# Altium schematic symbol library stf202_22t1g.SchLib: 1 symbol
Pins are listed as number, name and electrical type; pins without a type are passive.

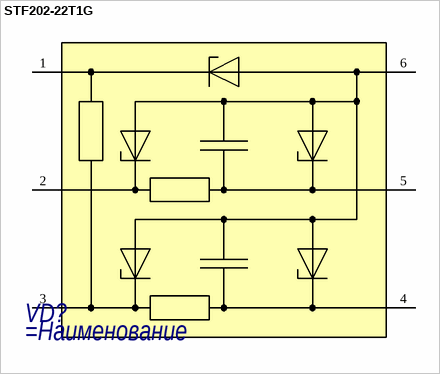
[diagram p0: symbol STF202-22T1G]

## STF202-22T1G
designator VD?
=Описание
pins: 1, 2, 3, 4, 5, 6